# EAGLE library part OPAMP2_ (library JLC PCB Basic Parts_loc)
Operation Amplifier SMD Dual Opamp
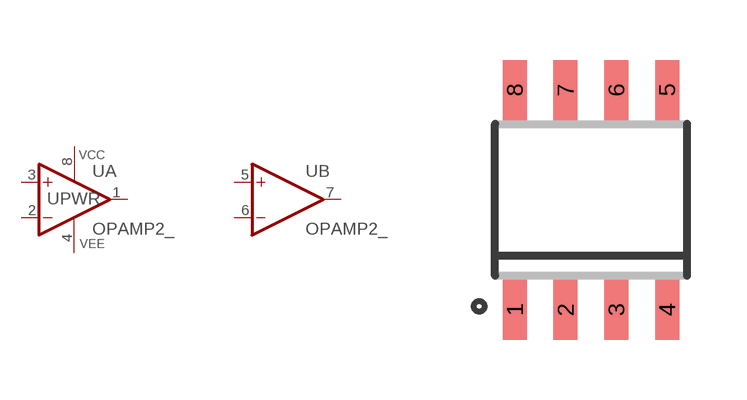
[diagram p0: symbol with the pads of SOIC8; footprint SOIC8]

Designator prefix U; gates A=OPAMP B=OPAMP PWR=OPAMP-POWER

## OPAMP2_TL072CDT_SOIC8 (LCSC_DATASHEET: https://datasheet.lcsc.com/lcsc/1809051915_STMicroelectronics-TL072CDT--_C6961.pdf; LCSC_PART: C6961; LCSC_PRICE1_EUR: 0.257322835; LCSC_ROTATION_CCW: 0; LCSC_STOCK: 43617; PROPERTIES: 2.5mA 16 V/us 2 4MHz J-FET 6V ~ 36V, ±3V ~ 18V SOIC-8_150mil FET InputAmplifiers ROHS), OPAMP2_MCP6002T-I/SN_SOIC8 (LCSC_DATASHEET: https://datasheet.lcsc.com/lcsc/1811081213_Microchip-Tech-MCP6002T-I-SN--_C7377.pdf; LCSC_PART: C7377; LCSC_PRICE1_EUR: 0.309606299; LCSC_ROTATION_CCW: 0; LCSC_STOCK: 46413; PROPERTIES: 0.6 V/us 2 1MHz 1.8V ~ 6V 100A General Purpose SOIC-8_150mil Operational Amplifier ROHS), OPAMP2_NE5532DR_SOIC8 (LCSC_DATASHEET: https://datasheet.lcsc.com/lcsc/1809301912_Texas-Instruments-NE5532DR--_C7426.pdf; LCSC_PART: C7426; LCSC_PRICE1_EUR: 0.309133858; LCSC_ROTATION_CCW: 0; LCSC_STOCK: 12292; PROPERTIES: 9 V/us 2 10MHz ±5V ~ 15V 8mA General Purpose SOIC-8_150mil Operational Amplifier ROHS), OPAMP2_LM358DR2G_SOIC8 (LCSC_DATASHEET: https://datasheet.lcsc.com/lcsc/1811100911_onsemi-LM358DR2G-_C7950.pdf; LCSC_PART: C7950; LCSC_PRICE1_EUR: 0.135433071; LCSC_ROTATION_CCW: 0; LCSC_STOCK: 136233; PROPERTIES: 0.6 V/us 2 1MHz 3V ~ 32V, ±1.5V ~ 16V 1.5mA General Purpose SOIC-8_150mil Operational Amplifier ROHS), OPAMP2_LM2904DR2G_SOIC8 (LCSC_DATASHEET: https://datasheet.lcsc.com/lcsc/1811012110_onsemi-LM2904DR2G_C18229.pdf; LCSC_PART: C18229; LCSC_PRICE1_EUR: 0.172582677; LCSC_ROTATION_CCW: 0; LCSC_STOCK: 19047; PROPERTIES: 0.6 V/us 2 1MHz 3V ~ 32V, ±1.5V ~ 16V 1.5mA General Purpose SOIC-8_150mil Operational Amplifier ROHS)  [SOIC8]
1  A:OUT  out
2  A:-IN  in
3  A:+IN  in
4  PWR:VEE  pwr
5  B:+IN  in
6  B:-IN  in
7  B:OUT  out
8  PWR:VCC  pwr

## Footprint SOIC8 (pad centres in mm)
SOIC-8 CASE 751-07 Source: http://www.onsemi.com/pub/Collateral/MC34164-D.PDF D (R-PDSO-G8)PLATIC SMALL-OUTLINE PACKAGE Source: http://focus.ti.com/lit/ds/symlink/tlc27l2.pdf
smd 0.6 x 1.5: 1 -1.905,-2.75; 2 -0.635,-2.75; 3 0.635,-2.75; 4 1.905,-2.75; 5 1.905,2.75; 6 0.635,2.75; 7 -0.635,2.75; 8 -1.905,2.75